# EAGLE library part MLW14 (library userlib)
HARTING
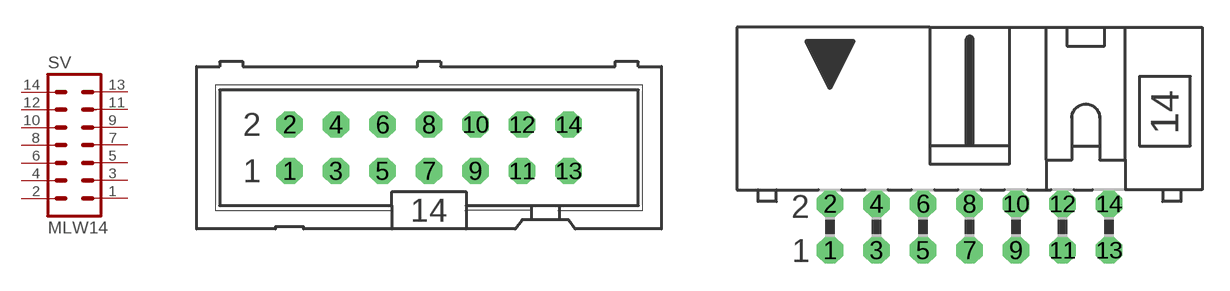
[diagram p8: symbol with the pads of ML14; footprints ML14, ML14L]

Designator prefix SV

## MLW14  [ML14]
1  1  pas
2  2  pas
3  3  pas
4  4  pas
5  5  pas
6  6  pas
7  7  pas
8  8  pas
9  9  pas
10  10  pas
11  11  pas
12  12  pas
13  13  pas
14  14  pas

## MLW14L  [ML14L]
Pads as for ML14

## MLW14-3M  [3M_14]
Pads as for ML14

## MLW14-3ML  [3M_14L]
Pads as for ML14

## Footprint ML14 (pad centres in mm)
HARTING
drill 0.914 octagon: 1 -7.62,-1.27; 2 -7.62,1.27; 3 -5.08,-1.27; 4 -5.08,1.27; 5 -2.54,-1.27; 6 -2.54,1.27; 7 0,-1.27; 8 0,1.27; 9 2.54,-1.27; 10 2.54,1.27; 11 5.08,-1.27; 12 5.08,1.27; 13 7.62,-1.27; 14 7.62,1.27

## Footprint ML14L (pad centres in mm)
HARTING
drill 0.914 octagon: 1 -7.62,-1.27; 2 -7.62,1.27; 3 -5.08,-1.27; 4 -5.08,1.27; 5 -2.54,-1.27; 6 -2.54,1.27; 7 0,-1.27; 8 0,1.27; 9 2.54,-1.27; 10 2.54,1.27; 11 5.08,-1.27; 12 5.08,1.27; 13 7.62,-1.27; 14 7.62,1.27

## Footprint 3M_14 (pad centres in mm)
3M
drill 0.813 square: 1 -7.62,-1.27; 2 -7.62,1.27; 3 -5.08,-1.27; 4 -5.08,1.27; 5 -2.54,-1.27; 6 -2.54,1.27; 7 0,-1.27; 8 0,1.27; 9 2.54,-1.27; 10 2.54,1.27; 11 5.08,-1.27; 12 5.08,1.27; 13 7.62,-1.27; 14 7.62,1.27

## Footprint 3M_14L (pad centres in mm)
3M
drill 0.813 square: 1 -7.62,-5.08; 2 -7.62,-2.54; 3 -5.08,-5.08; 4 -5.08,-2.54; 5 -2.54,-5.08; 6 -2.54,-2.54; 7 0,-5.08; 8 0,-2.54; 9 2.54,-5.08; 10 2.54,-2.54; 11 5.08,-5.08; 12 5.08,-2.54; 13 7.62,-5.08; 14 7.62,-2.54
hole 2.54 at -13.538,-3.277
hole 2.54 at 13.538,-3.277